# Altium footprint library SnapEDApcb.PcbLib: 1 footprints
Each footprint in its own frame and in the unit in brackets; x right, y up, seen from the top. Pads: shape width x height; smd on the part's side, far side on the other; paste and mask are expansions set on the pad; w line width, h text height; cw(c..) or ccw(c..) is an arc to the next point about the centre after c.
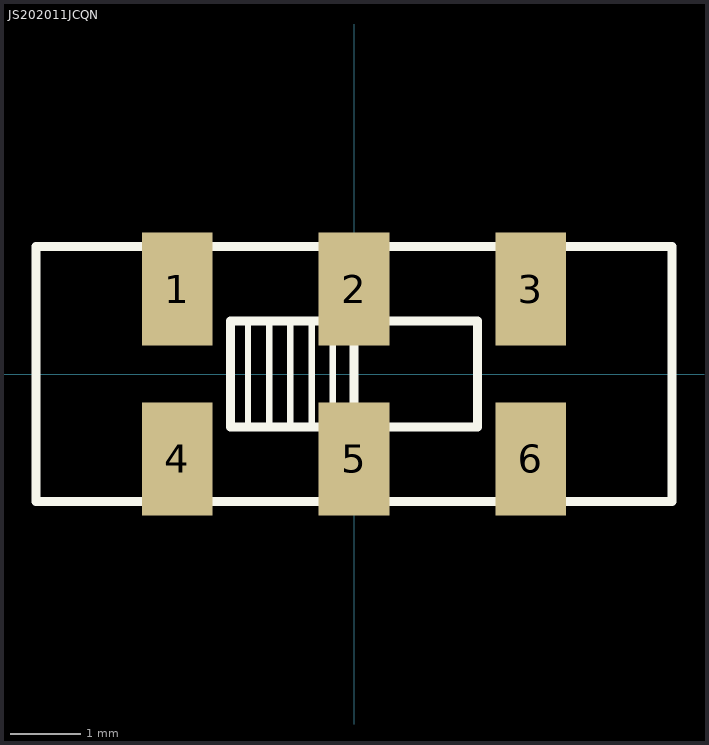
[diagram p0: the footprint, top view; thin cyan lines are the x and y axes]

## JS202011JCQN [mm]
pads (6):
  rect 1x1.6 smd: 1(-2.5,1.2) 2(0,1.2) 3(2.5,1.2) 4(-2.5,-1.2) 5(0,-1.2) 6(2.5,-1.2)
Top Overlay:
  lines w0.09: -1.5,-0.75 -1.5,0.75 ; -1.2,-0.75 -1.2,0.75 ; -0.9,-0.75 -0.9,0.75 ; -0.6,-0.75 -0.6,0.75 ; -0.3,-0.75 -0.3,0.75
  lines w0.127: 0,-0.75 1.75,-0.75 1.75,0.75 0,0.75 ; 0,-0.75 -0.3,-0.75 -0.6,-0.75 -0.9,-0.75 -1.2,-0.75 -1.5,-0.75 -1.75,-0.75 -1.75,0.75 -1.5,0.75 -1.2,0.75 -0.9,0.75 -0.6,0.75 -0.3,0.75 0,0.75 ; 0,-0.75 0,0.75 ; -4.5,-1.8 -4.5,1.8 4.5,1.8 4.5,-1.8 -4.5,-1.8